# EAGLE library part MPU-9250 (library invensense)
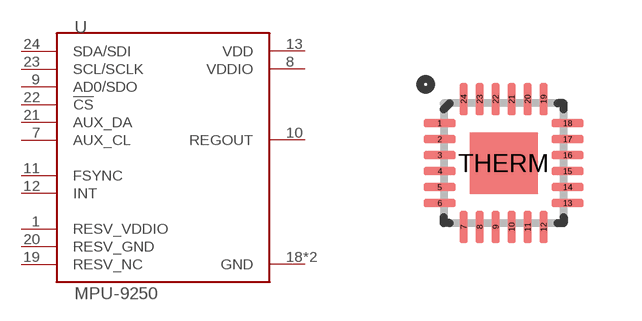
[diagram p0: symbol with the pads of QFN24_3MM; footprint QFN24_3MM]

Designator prefix -

## MPU-9250  [QFN24_3MM]
1  RESV_VDDIO
7  AUX_CL
8  VDDIO
9  AD0/SDO
10  REGOUT
11  FSYNC
12  INT
13  VDD
18  GND
19  RESV_NC
20  RESV_GND
21  AUX_DA
22  !CS
23  SCL/SCLK
24  SDA/SDI
THERM  GND

## Footprint QFN24_3MM (pad centres in mm)
smd 0.8 x 0.2: 1 -1.6,1; 2 -1.6,0.6; 3 -1.6,0.2; 4 -1.6,-0.2; 5 -1.6,-0.6; 6 -1.6,-1; 13 1.6,-1; 14 1.6,-0.6; 15 1.6,-0.2; 16 1.6,0.2; 17 1.6,0.6; 18 1.6,1
smd 0.2 x 0.8: 7 -1,-1.6; 8 -0.6,-1.6; 9 -0.2,-1.6; 10 0.2,-1.6; 11 0.6,-1.6; 12 1,-1.6; 19 1,1.6; 20 0.6,1.6; 21 0.2,1.6; 22 -0.2,1.6; 23 -0.6,1.6; 24 -1,1.6
smd 1.7 x 1.54: THERM 0,0